# EAGLE library part ATTINY1634 (library atmel)
8-bit AVR tiny Microcontroller Status aktiv ATtiny1643 General purpose working registers 32 SRAM 1 kB Program flash memory 16 kB EEPROM 256 B 16-bit Timer/Counter 1 8-bit Timer/Counter 1 USART 2 SPI 1 TWI (I2C) 1 ADC channels 12 ADC resolution 10 bit AC 1 Watchdog 1 General purpose I/O 18 External interrupts 18 Operating voltage 1.8 ... 5.5 V Speed grade 0 ... 2 MHz @ 1.8 ... 5.5 V 0 ... 4 MHz @ 2.7 ... 5.5 V 0 ... 12 MHz @ 4.5 ... 5.5V Clock options calibrated internal 8 MHz oscillator external crystal oscillator / ceramic resonator internal 32 kHz ultra low power RC oscillator external clock input
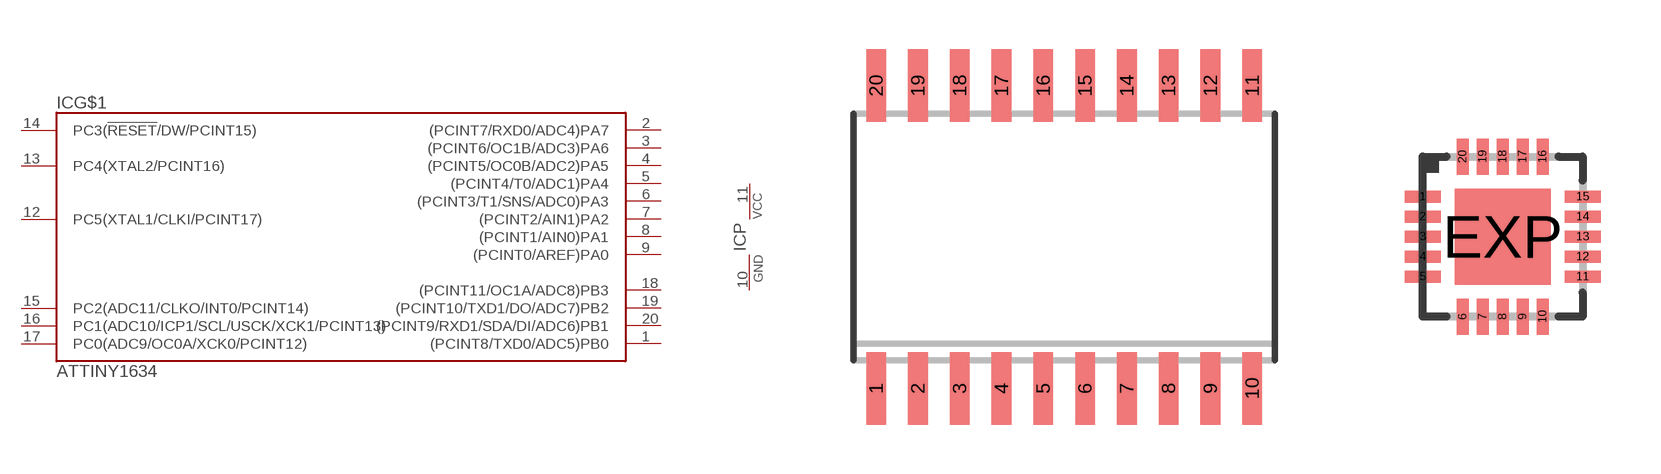
[diagram p95: symbol with the pads of SO20W; footprints SO20W, QFN20_4X4_0.50]

Designator prefix IC; gates G$1=TINY1634 P=PWR

## ATTINY1634-SU, ATTINY1634R-SU  [SO20W]
1  G$1:(PCINT8/TXD0/ADC5)PB0
2  G$1:(PCINT7/RXD0/ADC4)PA7
3  G$1:(PCINT6/OC1B/ADC3)PA6
4  G$1:(PCINT5/OC0B/ADC2)PA5
5  G$1:(PCINT4/T0/ADC1)PA4
6  G$1:(PCINT3/T1/SNS/ADC0)PA3
7  G$1:(PCINT2/AIN1)PA2
8  G$1:(PCINT1/AIN0)PA1
9  G$1:(PCINT0/AREF)PA0
10  P:GND  pwr
11  P:VCC  pwr
12  G$1:PC5(XTAL1/CLKI/PCINT17)
13  G$1:PC4(XTAL2/PCINT16)
14  G$1:PC3(!RESET!/DW/PCINT15)
15  G$1:PC2(ADC11/CLKO/INT0/PCINT14)
16  G$1:PC1(ADC10/ICP1/SCL/USCK/XCK1/PCINT13)
17  G$1:PC0(ADC9/OC0A/XCK0/PCINT12)
18  G$1:(PCINT11/OC1A/ADC8)PB3
19  G$1:(PCINT10/TXD1/DO/ADC7)PB2
20  G$1:(PCINT9/RXD1/SDA/DI/ADC6)PB1

## ATTINY1634-MU, ATTINY1634R-MU  [QFN20_4X4_0.50]
1  G$1:(PCINT6/OC1B/ADC3)PA6
2  G$1:(PCINT5/OC0B/ADC2)PA5
3  G$1:(PCINT4/T0/ADC1)PA4
4  G$1:(PCINT3/T1/SNS/ADC0)PA3
5  G$1:(PCINT2/AIN1)PA2
6  G$1:(PCINT1/AIN0)PA1
7  G$1:(PCINT0/AREF)PA0
8  P:GND  pwr
9  P:VCC  pwr
10  G$1:PC5(XTAL1/CLKI/PCINT17)
11  G$1:PC4(XTAL2/PCINT16)
12  G$1:PC3(!RESET!/DW/PCINT15)
13  G$1:PC2(ADC11/CLKO/INT0/PCINT14)
14  G$1:PC1(ADC10/ICP1/SCL/USCK/XCK1/PCINT13)
15  G$1:PC0(ADC9/OC0A/XCK0/PCINT12)
16  G$1:(PCINT11/OC1A/ADC8)PB3
17  G$1:(PCINT10/TXD1/DO/ADC7)PB2
18  G$1:(PCINT9/RXD1/SDA/DI/ADC6)PB1
19  G$1:(PCINT8/TXD0/ADC5)PB0
20  G$1:(PCINT7/RXD0/ADC4)PA7
EXP  P:GND  pwr

## ATTINY1634-MN  [QFN20_4X4_0.50]
Pads as for QFN20_4X4_0.50

## Footprint SO20W (pad centres in mm)
Small Outline IC, 300mil body width, 50mil lead pitch package/pad dimensions according to IPC-SM-782, RLP No. 306A JEDEC: MS-013 AC IPC: SO20W other notations: SO-20W, SOIC20W, SOIC-20W
smd 0.6 x 2.2: 1 -5.715,-4.6; 2 -4.445,-4.6; 3 -3.175,-4.6; 4 -1.905,-4.6; 5 -0.635,-4.6; 6 0.635,-4.6; 7 1.905,-4.6; 8 3.175,-4.6; 9 4.445,-4.6; 10 5.715,-4.6; 11 5.715,4.6; 12 4.445,4.6; 13 3.175,4.6; 14 1.905,4.6; 15 0.635,4.6; 16 -0.635,4.6; 17 -1.905,4.6; 18 -3.175,4.6; 19 -4.445,4.6; 20 -5.715,4.6

## Footprint QFN20_4X4_0.50 (pad centres in mm)
20-Lead Plastic QFN, 4mm x 4mm body, 0.5mm lead pitch, exposed pad 0.45 mm lead length JEDEC: MO-220 ATMEL Code: 20M1, ZFV other notations: MFL20
smd 0.9 x 0.3: 1 -2,1; 2 -2,0.5; 3 -2,0; 4 -2,-0.5; 5 -2,-1; 11 2,-1; 12 2,-0.5; 13 2,0; 14 2,0.5; 15 2,1
smd 0.3 x 0.9: 6 -1,-2; 7 -0.5,-2; 8 0,-2; 9 0.5,-2; 10 1,-2; 16 1,2; 17 0.5,2; 18 0,2; 19 -0.5,2; 20 -1,2
smd 2.4 x 2.4: EXP 0,0